# Altium integrated library CL05A106MQ5NUNC.IntLib: 1 symbol
Pins are listed as number, name and electrical type; pins without a type are passive.

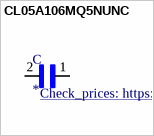
[diagram p0: symbol CL05A106MQ5NUNC]

## CL05A106MQ5NUNC
designator C
10ÂµF Â±20% 6.3V Ceramic Capacitor X5R 0402 (1005 Metric); MF: Samsung; MP: CL05A106MQ5NUNC; SnapEDA_Link: https://www.snapeda.com/parts/CL05A106MQ5NUNC/Samsung/view-part/3597832/?ref=snap; Value: *; Availability: Good; Package: 0402 Samsung; DigiKey-Purchase-URL: https://snapeda.com/shop?store=DigiKey&id=3597832; Arrow_Electronics-Purchase-URL: https://snapeda.com/shop?store=Arrow+Electronics&id=3597832; Price: None; Check_prices: https://www.snapeda.com/parts/CL05A106MQ5NUNC/Samsung/view-part/3597832/?ref=eda
footprint CAPC1005X55N
pins: 1, 2